# Altium schematic symbol library ECU_sche_lib.SchLib: 37 symbols
Pins are listed as number, name and electrical type; pins without a type are passive.

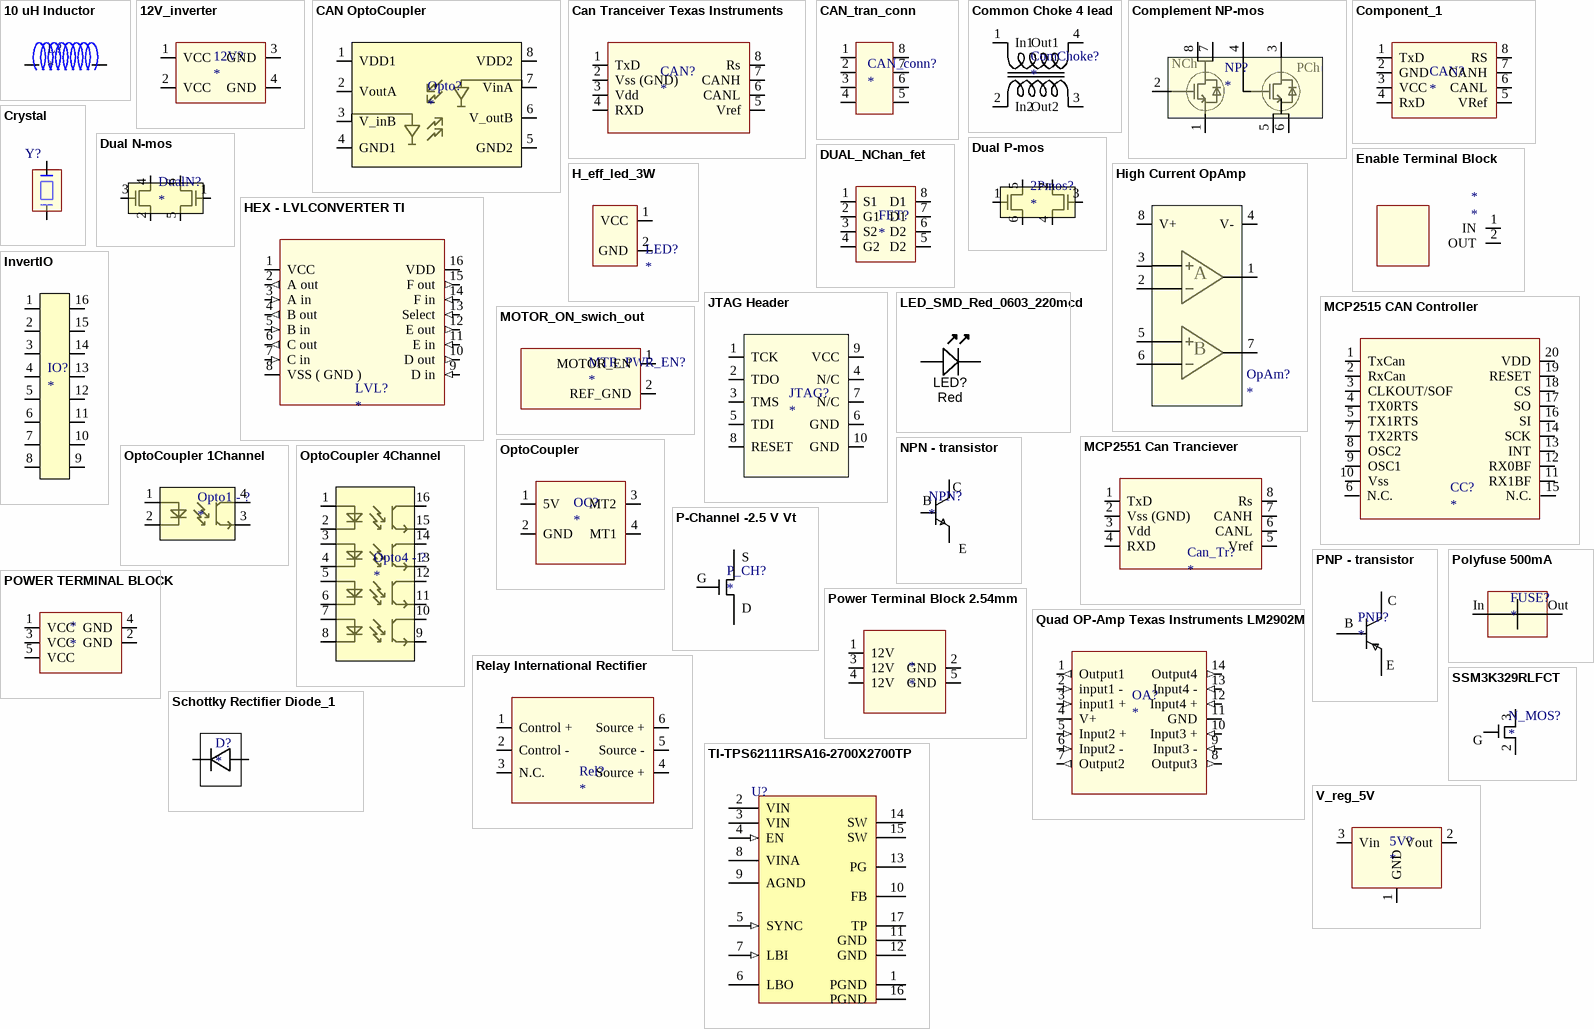
[diagram p0: symbols 10 uH Inductor to V_reg_5V]

## 10 uH Inductor
designator L?
Manufacturer: Taiyo Yuden; Digikey number: 587-2376-1-ND; price: 2.5 kr; Wurth inductor farnell no: 2211638
footprint 10 uH inductor
footprint 10uH Wurth inductor (10uH shielded inductor from wurth, for power supply)
pins: 1, 2

## 12V_inverter
designator 12V?
footprint 12V_inverter
pins: 1 VCC, 2 VCC, 3 GND, 4 GND

## CAN OptoCoupler
designator Opto?
Manufacturers no: FOD8012; Digikey no: FOD8012-ND; price: 20.88 NOK
footprint SOIC 8pin,  optocoupler (8pin SOIC 8pin logic out Fairchild Semi)
pins: 1 VDD1, 2 VoutA, 3 V_inB, 4 GND1, 5 GND2, 6 V_outB, 7 VinA, 8 VDD2

## Can Tranceiver Texas Instruments
designator CAN?
Manufacturer: Texas Instruments; Manufacturers number: SN65HVD251D; Farnell number: 1212364; price: 21 kr
footprint gen CAN-Tranciever (SOIC, 8-Leads, Body 5,00x4,00mm, Pitch 1,27mm, IPC Medium Density)
pins: 1 TxD, 2 Vss (GND), 3 Vdd, 4 RXD, 5 Vref, 6 CANL, 7 CANH, 8 Rs

## CAN_tran_conn
designator CAN_conn?
pins: 4
footprint CAN_IO_8PIN
pins: 1 (io), 2 (io), 3 (io), 4 (io), 5 (io), 6 (io), 7 (io), 8 (io)

## Common Choke 4 lead
designator ComChoke?
Common mode filtering device for power supply. 15A max; Digikey no: 240-2502-1-ND; price: 3 kr
footprint 4 pin 2.84mm pitch common choke package (SOJ, 4-Leads, Body 5,15x5,60mm, Pitch 2,84mm, IPC Medium Density)
pins: 1 In1, 2 In2, 3 Out2, 4 Out1

## Complement NP-mos
designator NP?
Farnell Number: 2251968; price: *
footprint SOIC - 8 FC (SOIC8 Fairchild Semiconductors)
pins: 1 S1, 2 G1, 3 S2, 4 G2, 5 D2, 6 D2, 7 D1, 8 D1
text: NCh; PCh

## Component_1
designator CAN?
footprint gen CAN-Tranciever (SOIC, 8-Leads, Body 5,00x4,00mm, Pitch 1,27mm, IPC Medium Density)
pins: 1 TxD, 2 GND, 3 VCC, 4 RxD, 5 VRef, 6 CANL, 7 CANH, 8 RS

## Crystal
designator Y?  (value not drawn)
footprint SMD-CRYSTAL (Quartz Crystal, SM; Body 5.0x 3.2 mm (LxW))
footprint SMD-CRYSTAL (Quartz Crystal, SM; Body 5.0x 3.2 mm (LxW))
pins: 1, 2, 3, 4

## Dual N-mos
designator DualN?
Manufacturer: Fairchild Semiconductor; Manufacturers number: FDC3601N
footprint SOT-26 (SOT-23 (6) package)
pins: 1 G1, 2 S2, 3 G2, 4 D2, 5 S1, 6 D1

## Dual P-mos
designator 2Pmos?
Manufacturer: Fairchild Semiconductors; Manufacturers number: NDC7003P; Digikey number: NDC7003PCT-ND
footprint SOT-26 (SOT-23 (6) package)
pins: 1 G1, 2 S2, 3 G2, 4 D2, 5 S1, 6 D1

## DUAL_NChan_fet
designator FET?
Manufacturer: Vishay Siliconix; Vgs: 1.8- 3; Rds_ON: 0.051 ohm
footprint SOIC127P600-8N
pins: 1 S1 (power), 2 G1 (power), 3 S2 (power), 4 G2 (power), 5 D2 (power), 6 D2 (power), 7 D1 (power), 8 D1 (power)

## Enable Terminal Block
designator *
footprint Terminal Block 2 pin
footprint Molex 2 pin 2.54 mm connector
pins: 1 IN, 2 OUT

## H_eff_led_3W
designator LED?
footprint H_eff_LED_3W
pins: 1 VCC, 2 GND

## HEX - LVLCONVERTER TI
designator LVL?
Manufacturer: Texas Instruments; Price: 5 kr; Farnell number: 1752811 ( ssop )
footprint SOIC16 - TI - LVLSHIFTER (16 pin SOIC package for Texas Instrument 6 channel level converter)
footprint SSOP16 Logic LVL (SSOP-16 package for 6 channel level converter)
pins: 1 VCC (power), 2 A out (out), 3 A in (in), 4 B out (out), 5 B in (in), 6 C out (out), 7 C in (in), 8 VSS ( GND ) (power), 9 D in (in), 10 D out (out), 11 E in (in), 12 E out (out), 13 Select (in), 14 F in (in), 15 F out (out), 16 VDD (power)

## High Current OpAmp
designator OpAm?
Mnufacturer no: LM7332MA; Farnell No: 1589522; price: 19 kr
footprint SOIC8 - TI - High Curr OPAMP (High current Op-amp land pattern (SOIC8) for TI LM7332MA)
pins: 1 OutA, 2 In - A, 3 In + A, 4 V-, 5 In + B, 6 In - B, 7 OutB, 8 V+
text: A; B

## InvertIO
designator IO?
Manufacturer: Multicomp; Price: 11 kr; farnell number: 2007989
footprint InverterIO
footprint Model Name (Model Description)
pins: 1, 2, 3, 4, 5, 6, 7, 8, 9, 10, 11, 12, 13, 14, 15, 16

## JTAG Header
designator JTAG?
footprint 10pin Header
pins: 1 TCK, 2 TDO, 3 TMS, 4 N/C, 5 TDI, 6 GND, 7 N/C, 8 RESET, 9 VCC, 10 GND

## LED_SMD_Red_0603_220mcd
designator LED?, comment Red
LED 0603 SMD Hyper Red 630nm 220mcd 20mA; Manufacturer 1: Kingbright Corp; Manufacturer Part Number 1: APT1608SURCK; Material: AlGaInP on GaAs; Ratings: 220 mcd; 630 nm; Voltage - Forward (Vf) Typ: 1.95V; Voltage - Forward (Vf) @ 10mA: 1.9V; Package / Case: 0603 (1608 metric); Supplier 1: Digi-Key; Supplier Part Number 1: 754-1123-1-ND
footprint LED-0603-RED
pins: A, K

## MCP2515 CAN Controller
designator CC?
Manufacturer: Microchip; price: 26 kr; farnell number: 1605566
footprint SOP20-lead TI (20 lead SSOP package for MCP2515 can-controller)
pins: 1 TxCan, 2 RxCan, 3 CLKOUT/SOF, 4 TX0RTS, 5 TX1RTS, 6 N.C. "Not internally connected", 7 TX2RTS, 8 OSC2, 9 OSC1, 10 Vss, 11 RX1BF, 12 RX0BF, 13 INT, 14 SCK, 15 N.C. "Not internally connected", 16 SI, 17 SO, 18 CS, 19 RESET, 20 VDD

## MCP2551 Can Tranciever
designator Can_Tr?
Manufacturer: Microchip; price: 12 kr; farnell number: 1467746
footprint gen CAN-Tranciever (SOIC, 8-Leads, Body 5,00x4,00mm, Pitch 1,27mm, IPC Medium Density)
pins: 1 TxD, 2 Vss (GND), 3 Vdd, 4 RXD, 5 Vref, 6 CANL, 7 CANH, 8 Rs

## MOTOR_ON_swich_out
designator MTR_PWR_EN?
footprint MOTOR_POWER_ON_conn
footprint Molex 2 pin 2.54 mm connector
pins: 1 MOTOR_EN (power), 2 REF_GND (power)

## NPN - transistor
designator NPN?
Manufacturer: STIMicroElectronics; price: 2.54 kr; farnell number: 1749421
footprint SOT23 (SOT23, 3-Leads, Body 2,92x2,37mm, Pitch 0,95mm, IPC Medium Density)
pins: 1 B, 2 E, 3 C

## OptoCoupler
designator OC?
Manufacturer: Vishay; Manufacturers number: VOM3053T; Farnell number: 2251581; price: 8.10 kr
footprint SOP-4 (SOP, 4-Leads, Body 4,93x4,57mm, Pitch 2,54mm, IPC Medium Density)
pins: 1 5V, 2 GND, 3 MT2, 4 MT1

## OptoCoupler 1Channel
designator Opto1 - ?
price: 4,15800; Digikey no: PS2801C-1-F3-ACT-ND
footprint SOP4 (Used for 1channel optocoupler from CEL)
pins: 1 In1 +, 2 Out1 -, 3 Out 1 -, 4 Out 1 +

## OptoCoupler 4Channel
designator Opto4 - ?
Digikey no: PS2801C-4-F3-ACT-ND; price: 13.52800
footprint SOP16 (SOP16 CEL-package (used for 4channel optocoupler))
pins: 1 In1 +, 2 Out1 -, 3 In 2 +, 4 Out2 -, 5 In 3 +, 6 Out3 -, 7 In 4 +, 8 Out4 -, 9 Out 4 - , 10 Out 4 +, 11 Out 3 -, 12 Out 3 +, 13 Out 2 -, 14 Out 2 +, 15 Out 1 -, 16 Out 1 +

## P-Channel -2.5 V Vt
designator P_CH?
Manufacturer: Vishay Siliconix; Vt: -2.5V; farnell number: 1837397; price: 6.7
footprint SOT23 (SOT23, 3-Leads, Body 2,92x2,37mm, Pitch 0,95mm, IPC Medium Density)
pins: 1 G (power), 2 S (power), 3 D (power)

## PNP - transistor
designator PNP?
manufacturer: NXP; price: 1.50 kr; farnell number: 1829343
footprint SOT23 (SOT23, 3-Leads, Body 2,92x2,37mm, Pitch 0,95mm, IPC Medium Density)
pins: 1 B, 2 Emitter, 3 Collector
text: C; E

## Polyfuse 500mA
designator FUSE?
Manufacturer: Littlefuse; pris: 4 kr; tripping current: 500mA; Farnell number: 1757479
footprint Polyfuse 500mA
pins: 1 IN (power), 2 out (power)
text: In; Out

## POWER TERMINAL BLOCK
designator *
footprint Terminal Block 5WAY
pins: 1 VCC (power), 2 GND (power), 3 VCC (power), 4 GND (power), 5 VCC (power)

## Power Terminal Block 2.54mm
designator *
footprint Terminal block 5 pin 2.54 mm pitch
pins: 1 12V, 2 GND, 3 12V, 4 12V, 5 GND

## Quad OP-Amp Texas Instruments LM2902M
designator OA?
Manufacturer: Texas Instruments; Part name: LM2902M; Farnell number: 9486887; Price: 8 kr; package: SOIC-14
footprint SOIC14 TexIn med_den (SOIC14 package, intended for quad opamp from Texasinstruments)
pins: 1 Output1 (out), 2 input1 - (in), 3 input1 + (in), 4 V+ (power), 5 Input2 + (in), 6 Input2 - (in), 7 Output2 (out), 8 Output3 (out), 9 Input3 - (in), 10 Input3 + (in), 11 GND (power), 12 Input4 + (in), 13 Input4 - (in), 14 Output4 (out)

## Relay International Rectifier
designator Rel?
Manufacturer: International Rectifier; price: 39.5 kr; DigiKey number: PVG612ASPBF-ND
footprint SOP6 - Relay (Footprint for International Rectifier relay)
pins: 1 Control +, 2 Control -, 3 N.C., 4 Source +, 5 Source -, 6 Source +

## Schottky Rectifier Diode_1
designator D?
Schottky diode, 3A Imax, 20Vrev,max; Farnell no: 1838809; price: 4.71
footprint Vishay SMC diode package (Molded Diode, 2-Leads, Body 6,85x5,90mm, IPC Medium Density)
pins: 1 Cathode "2-18 V", 2 Anode

## SSM3K329RLFCT
designator N_MOS?
SSM3K329RLFCT
footprint SOT23 (SOT23, 3-Leads, Body 2,92x2,37mm, Pitch 0,95mm, IPC Medium Density)
pins: 1 G (power), 2 S, 3 D

## TI-TPS62111RSA16-2700X2700TP
designator U?
footprint RSA16-2700X2700TP (QFN, 16-Leads, Body 4x4mm, Pitch 0.65mm, Thermal Pad 2.7x2.7mm, TI Recommended)
pins: 1 PGND (power) "Power ground. Connect all power grounds to this pin.", 2 VIN (power) "Supply voltage input (power stage).", 3 VIN (power) "Supply voltage input (power stage).", 4 EN (in) "Enable. A logic high enables the converter; logic low forces the device into shutdown mode reducing the supply current to less than 2 µ A.", 5 SYNC (in) "Input for synchronization to external clock signal. Synchronizes the converter switching frequency to anexternal clock signal with CMOS level: SYNC = HIGH: Low-noise mode enabled, fixed frequency PWM operation is forced. (See Datasheet)", 6 LBO (hiz) "Open-drain, low-battery output. This pin is pulled low if LBI is below its threshold.", 7 LBI (in) "Low-battery input.", 8 VINA (power) "Supply voltage input (support circuits).", 9 AGND (power) "Analog ground, connect to GND and PGND.", 10 FB "Feedback pin for the fixed output voltage option. For the adjustable version, an external resistive divider is connected to this pin. The internal voltage divider is disabled for the adjustable version.", 11 GND (power) "Ground.", 12 GND (power) "Ground.", 13 PG (oc) "Power good comparator output. This is an open-drain output. A pullup resistor should be connected between PG and VOUT. The output goes active high when the output voltage is greater than 98.4% of the nominal value.", 14 SW (power) "Connect the inductor to this pin. This pin is the switch pin and connected to the drain of the internal power MOSFETS.", 15 SW (power) "Connect the inductor to this pin. This pin is the switch pin and connected to the drain of the internal power MOSFETS.", 16 PGND (power) "Power ground. Connect all power grounds to this pin.", 17 TP (power) "Connect to AGND."

## V_reg_5V
designator 5V?
Manufacturer: ON semiconductor; Farnell number: 2112617; price: 3 kr
footprint SOT230P700X180-4N (SOT223, 4-Leads, Body 6,50x7,00mm (avg), Pitch 2,30mm, IPC Medium Density)
pins: 1 GND (power), 2 Vout (power), 3 Vin (power)